# Altium schematic symbol library Q_PFET_3PIN_A.SchLib: 1 symbol
Pins are listed as number, name and electrical type; pins without a type are passive.

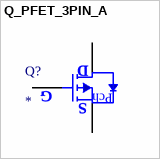
[diagram p0: symbol Q_PFET_3PIN_A]

## Q_PFET_3PIN_A
designator Q?
pins: DRAIN 3 (power) "DRAIN", Gate 1 (power) "Gate", SOURCE 2 (power) "SOURCE"
text: D; G; Pch; S